# EAGLE library part USB3315C (library mTrain)
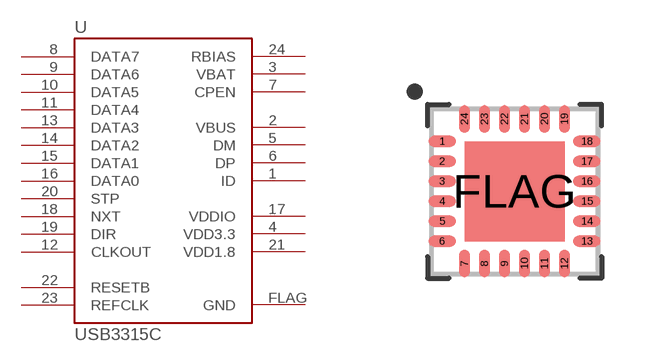
[diagram p4: symbol with the pads of VQFN24; footprint VQFN24]

Designator prefix U

## USB3315C  [VQFN24]
1  ID
2  VBUS
3  VBAT
4  VDD3.3
5  DM
6  DP
7  CPEN
8  DATA7
9  DATA6
10  DATA5
11  DATA4
12  CLKOUT
13  DATA3
14  DATA2
15  DATA1
16  DATA0
17  VDDIO
18  NXT
19  DIR
20  STP
21  VDD1.8
22  RESETB
23  REFCLK
24  RBIAS
FLAG  GND

## Footprint VQFN24 (pad centres in mm)
24-QFN, 0.5 mm pitch, 4 X 4 X 1 mm body 24-pin QFN package with 0.5 mm pitch with body size 4 X 4 X 1 mm
smd 0.69 x 0.28: 1 -1.81,1.25; 2 -1.81,0.75; 3 -1.81,0.25; 4 -1.81,-0.25; 5 -1.81,-0.75; 6 -1.81,-1.25; 13 1.81,-1.25; 14 1.81,-0.75; 15 1.81,-0.25; 16 1.81,0.25; 17 1.81,0.75; 18 1.81,1.25
smd 0.28 x 0.69: 7 -1.25,-1.81; 8 -0.75,-1.81; 9 -0.25,-1.81; 10 0.25,-1.81; 11 0.75,-1.81; 12 1.25,-1.81; 19 1.25,1.81; 20 0.75,1.81; 21 0.25,1.81; 22 -0.25,1.81; 23 -0.75,1.81; 24 -1.25,1.81
smd 2.5 x 2.5: FLAG 0,0